# Altium schematic symbol library PWR_JACK_SW.SchLib: 1 symbol
Pins are listed as number, name and electrical type; pins without a type are passive.

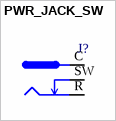
[diagram p0: symbol PWR_JACK_SW]

## PWR_JACK_SW
designator J?  (value not drawn)
pins: C, R, SW